# Altium footprint library 常用封装1.PcbLib: 27 footprints (part 1 of 2)
Each footprint in its own frame and in the unit in brackets; x right, y up, seen from the top. Pads: shape width x height; smd on the part's side, far side on the other; paste and mask are expansions set on the pad; w line width, h text height; cw(c..) or ccw(c..) is an arc to the next point about the centre after c.
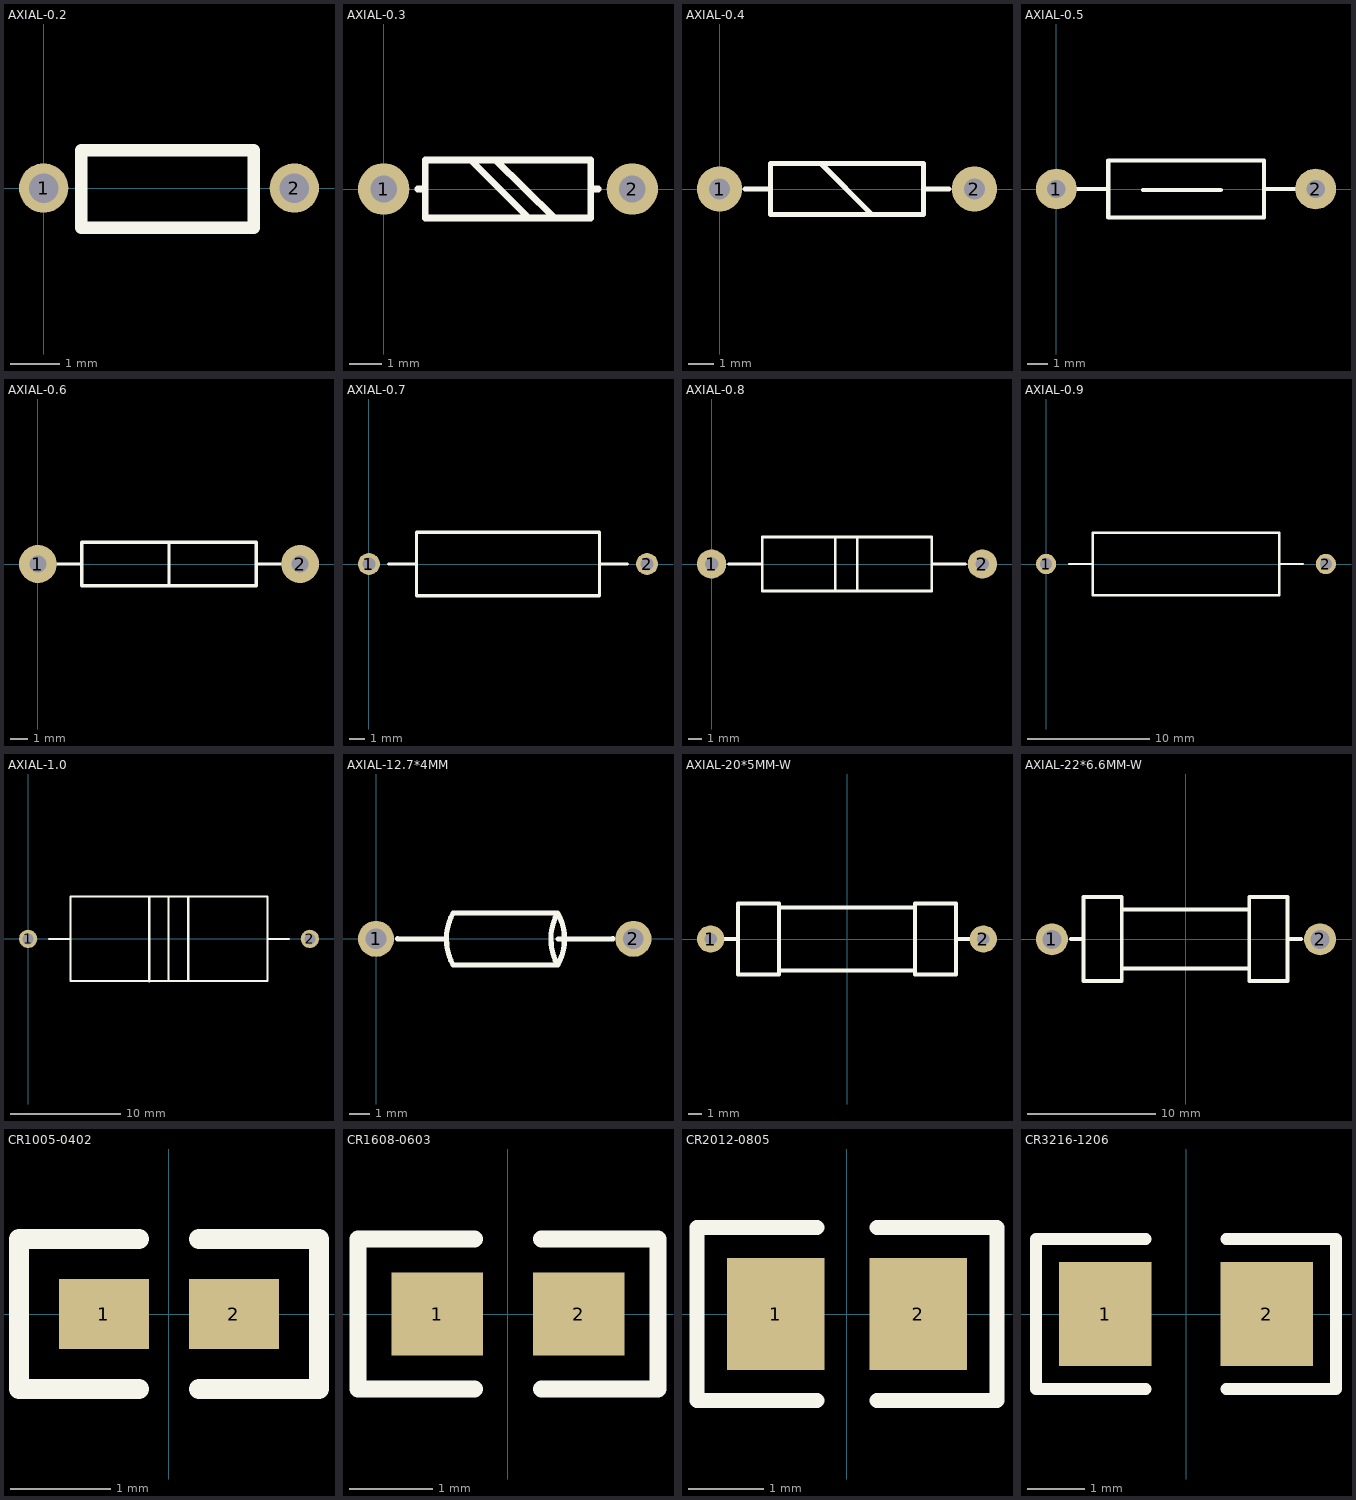
[diagram p0: the footprints below, top view; thin cyan lines are the x and y axes]

## AXIAL-0.2 [mm]
height 2
pads (2):
  round 1 hole 0.6: 1(0,0) 2(5.08,0)
Top Overlay:
  lines w0.254: 0.762,-0.8 0.762,0.762 1.51,0.762 3.26,0.762 4.262,0.762 4.262,-0.8 0.762,-0.8
3D body: height 2.91, standoff -2, extent -0.2,-0.935 5.33,0.885

## AXIAL-0.3 [mil] "1/8W电阻"
height 78.74
pads (2):
  round 62 hole 32: 1(0,0) 2(300,0)
Top Overlay:
  lines w7.87: 41,0 50,0 ; 250,0 259,0 ; 50,-35 50,35 250,35 250,-35 50,-35
  lines w8: 105,35 175,-35 ; 135,35 205.53,-34.46
3D body: height 88.58, standoff -59.06, extent -9.84,-39.37 309.85,39.37

## AXIAL-0.4 [mm]
pads (2):
  round 1.8 hole 0.85: 1(0,0) 2(10.16,0)
Top Overlay:
  lines w0.127: 4.47,1.016 4.597,1.016
  lines w0.2: 1.016,0 2.032,0 ; 8.128,0 9.144,0 ; 2.032,-1.016 2.032,1.016 8.128,1.016 8.128,-1.016 2.032,-1.016
  lines w0.203: 4.039,1.016 6.071,-1.016
3D body: height 3.26, standoff -2, extent -0.305,-1.27 10.455,1.25

## AXIAL-0.5 [mm]
pads (2):
  round 2 hole 0.9: 1(0,0) 2(12.7,0)
Top Overlay:
  lines w0.2: 1.016,0 2.54,0 ; 2.54,-1.397 2.54,1.397 ; 2.55,-1.4 10.17,-1.4 ; 2.55,1.4 10.17,1.4 ; 10.175,-1.394 10.175,1.4 ; 10.175,0 11.684,0
  lines w0.203: 4.242,-0.051 8.052,-0.051
3D body: height 2.75, standoff -1.5, extent -0.25,-1.5 12.95,1.5

## AXIAL-0.6 [mm]
pads (2):
  round 2.2 hole 1: 1(0,0) 2(15.24,0)
Top Overlay:
  lines w0.2: 1.016,0 2.54,0 ; 12.7,0 14.224,0 ; 2.54,-1.27 12.7,-1.27 12.7,1.27 2.54,1.27 2.54,-1.27
  lines w0.203: 7.62,-1.219 7.62,1.27
3D body: height 7.26, standoff -2, extent -0.4,-2.76 15.64,2.76

## AXIAL-0.7 [mm]
pads (2):
  round 1.4 hole 0.85: 1(0,0) 2(17.78,0)
Top Overlay:
  lines w0.2: 1.27,0 3.048,0 ; 14.732,0 16.51,0 ; 3.048,-2.032 14.732,-2.032 14.732,2.032 3.048,2.032 3.048,-2.032

## AXIAL-0.8 [mm] "电阻大功率直插1W&&2W"
pads (2):
  round 2.2 hole 1: 1(0,0) 2(20.32,0)
Top Overlay:
  lines w0.2: 1.27,0 3.81,0 ; 16.51,0 19.05,0 ; 3.81,-2.032 3.81,2.032 16.51,2.032 16.51,-2.032 3.81,-2.032
  lines w0.203: 9.271,-1.93 9.271,2.032 ; 10.922,-2.007 10.922,2.032

## AXIAL-0.9 [mm]
pads (2):
  round 1.65 hole 1: 1(0,0) 2(22.86,0)
Top Overlay:
  lines w0.2: 1.905,0 3.81,0 ; 19.05,0 20.955,0 ; 3.81,-2.54 19.05,-2.54 19.05,2.54 3.81,2.54 3.81,-2.54

## AXIAL-1.0 [mm]
pads (2):
  round 1.65 hole 1: 1(0,0) 2(25.4,0)
Top Overlay:
  lines w0.2: 1.905,0 3.81,0 ; 21.59,0 23.495,0 ; 3.81,-3.81 3.81,3.81 21.59,3.81 21.59,-3.81 3.81,-3.81
  lines w0.203: 10.922,-3.835 10.922,3.785 ; 12.649,-3.734 12.649,3.81 ; 14.427,-3.81 14.427,3.81

## AXIAL-12.7*4MM [mil]
height 196.85
pads (2):
  round 70 hole 40: 1(0,0) 2(500,0)
Top Overlay:
  lines w10: 41.9,0.1 137,0 ; 354,-0.03 459.88,0.12 ; 352.86,50.46 cw(c262.12,-0.4) 353,-51 ; 352.86,50.46 ccw(c443.74,-0.15) 353,-51 ; 352.86,50.46 149.86,50.46 ccw(c240.74,-0.15) 150,-51 353,-51
3D body: height 161.42, standoff -51.18, extent -6,-64 509.75,61.98

## AXIAL-20*5MM-W [mm] "2W电阻"
height 10
pads (2):
  round 2 hole 0.9: 1(-10,0) 2(10,0)
Top Overlay:
  lines w0.3: -5,-2.6 -5,-2 -5,2 -5,2.6 ; -5,-2.3 5,-2.3 ; -5,2.3 5,2.3 ; 5,-2.6 5,-2 5,2 5,2.6
  lines w0.305: -8.983,0 -8,0 ; -5,-2.6 -8,-2.6 -8,2.6 -5,2.6 ; 5,-2.6 8,-2.6 8,2.6 5,2.6 ; 8,0 9.068,0
3D body: height 5.8, standoff -1.4, extent -10.425,-2.515 10.375,2.485

## AXIAL-22*6.6MM-W [mm] "2W电阻"
height 10
pads (2):
  round 2.5 hole 1.5: 1(-10.465,-0.025) 2(10.541,-0.025)
Top Overlay:
  lines w0.3: -5,-3.3 -5,3.3 ; -5,-2.6 -5,-2 ; -5,-2.3 5,-2.3 ; -5,2 -5,2.6 ; -5,2.3 5,2.3 ; 5,-3.3 5,3.3 ; 5,-2.6 5,-2 ; 5,2 5,2.6
  lines w0.305: -8.983,0 -8,0 ; -5,-3.3 -8,-3.3 -8,3.3 -5,3.3 ; 5,-3.3 8,-3.3 8,3.3 5,3.3 ; 8,0 9.068,0
3D body: height 8.3, standoff -2, extent -10.998,-3.249 11.202,3.351

## CR1005-0402 [mm]
pads (2):
  rect 0.9x0.7 smd: 1(-0.65,0) 2(0.65,0)
Top Overlay:
  lines w0.2: -0.3,-0.75 -1.5,-0.75 -1.5,0.75 -0.3,0.75 ; 0.3,-0.75 1.5,-0.75 1.5,0.75 0.3,0.75
3D body: height 0.35, standoff 0, extent -0.5,-0.25 0.5,0.25

## CR1608-0603 [mm]
pads (2):
  rect 1.1x1 smd: 1(-0.85,0) 2(0.85,0)
Top Overlay:
  lines w0.2: -0.4,-0.9 -1.8,-0.9 -1.8,0.9 -0.4,0.9 ; 0.4,-0.9 1.8,-0.9 1.8,0.9 0.4,0.9
3D body: height 0.45, standoff 0, extent -0.8,-0.4 0.8,0.4

## CR2012-0805 [mm]
pads (2):
  rect 1.3x1.5 smd: 1(-0.95,0) 2(0.95,0)
Top Overlay:
  lines w0.2: -0.4,-1.15 -2,-1.15 -2,1.15 -0.4,1.15 ; 0.4,-1.15 2,-1.15 2,1.15 0.4,1.15
3D body: height 0.55, standoff 0, extent -1,-0.63 1,0.63

## CR3216-1206 [mm]
pads (2):
  rect 1.6x1.8 smd: 1(-1.4,0) 2(1.4,0)
Top Overlay:
  lines w0.2: -0.7,-1.3 -2.6,-1.3 -2.6,1.3 -0.7,1.3 ; 0.7,-1.3 2.6,-1.3 2.6,1.3 0.7,1.3
3D body: height 0.6, standoff 0, extent -1.6,-0.8 1.6,0.8